# Altium footprint library TQFP64_SOCKET.PcbLib: 1 footprints
Each footprint in its own frame and in the unit in brackets; x right, y up, seen from the top. Pads: shape width x height; smd on the part's side, far side on the other; paste and mask are expansions set on the pad; w line width, h text height; cw(c..) or ccw(c..) is an arc to the next point about the centre after c.
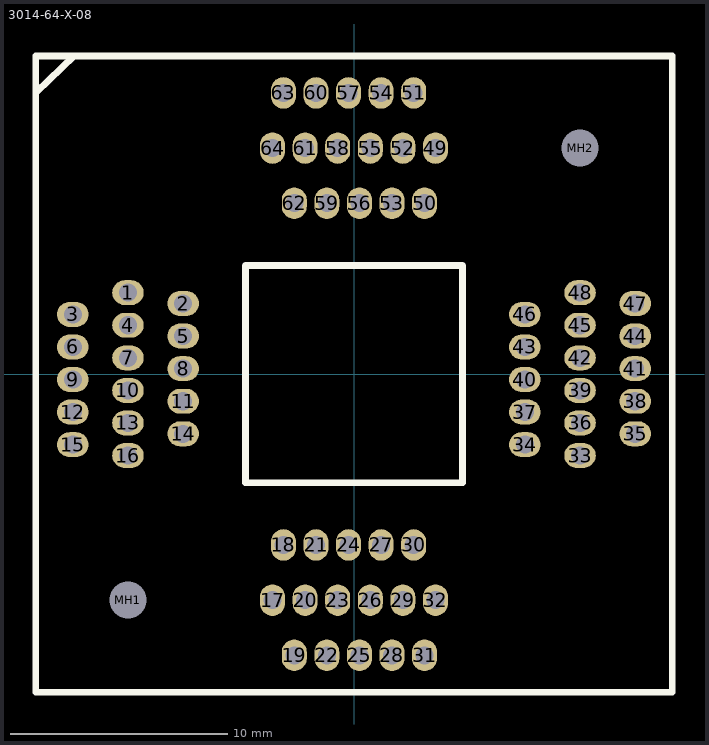
[diagram p0: the footprint, top view; thin cyan lines are the x and y axes]

## 3014-64-X-08 [mm]
pads (66):
  oval 1.45x1.15 hole 0.83: 1(-10.41,3.75) 2(-7.87,3.25) 3(-12.95,2.75) 4(-10.41,2.25) 5(-7.87,1.75) 6(-12.95,1.25) 7(-10.41,0.75) 8(-7.87,0.25) 9(-12.95,-0.25) 10(-10.41,-0.75) 11(-7.87,-1.25) 12(-12.95,-1.75) 13(-10.41,-2.25) 14(-7.87,-2.75) 15(-12.95,-3.25) 16(-10.41,-3.75) 33(10.41,-3.75) 34(7.87,-3.25) 35(12.95,-2.75) 36(10.41,-2.25) 37(7.87,-1.75) 38(12.95,-1.25) 39(10.41,-0.75) 40(7.87,-0.25) 41(12.95,0.25) 42(10.41,0.75) 43(7.87,1.25) 44(12.95,1.75) 45(10.41,2.25) 46(7.87,2.75) 47(12.95,3.25) 48(10.41,3.75)
  oval 1.15x1.45 hole 0.83: 17(-3.75,-10.41) 18(-3.25,-7.87) 19(-2.75,-12.95) 20(-2.25,-10.41) 21(-1.75,-7.87) 22(-1.25,-12.95) 23(-0.75,-10.41) 24(-0.25,-7.87) 25(0.25,-12.95) 26(0.75,-10.41) 27(1.25,-7.87) 28(1.75,-12.95) 29(2.25,-10.41) 30(2.75,-7.87) 31(3.25,-12.95) 32(3.75,-10.41) 49(3.75,10.41) 50(3.25,7.87) 51(2.75,12.95) 52(2.25,10.41) 53(1.75,7.87) 54(1.25,12.95) 55(0.75,10.41) 56(0.25,7.87) 57(-0.25,12.95) 58(-0.75,10.41) 59(-1.25,7.87) 60(-1.75,12.95) 61(-2.25,10.41) 62(-2.75,7.87) 63(-3.25,12.95) 64(-3.75,10.41)
  round 1.27 hole 1.71 unplated: MH1(-10.41,-10.41) MH2(10.41,10.41)
Top Overlay:
  lines w0.305: -14.627,12.995 -12.898,14.66 ; -14.65,-14.65 -14.65,14.65 14.65,14.65 14.65,-14.65 -14.65,-14.65 ; -5,-5 5,-5 5,5 -5,5 -5,-5